# Altium schematic symbol library AM1S.Schlib: 1 symbol
Pins are listed as number, name and electrical type; pins without a type are passive.

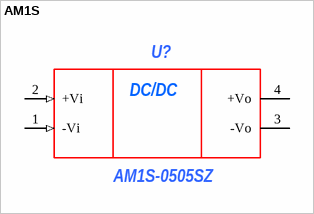
[diagram p0: symbol AM1S]

## AM1S
designator U?, comment AM1S-0505SZ
DC/DC преобразователь Uвх=5В, Uвых=5В 1Вт; ComponentLink1Description: *; ComponentLink1URL: *; ComponentLink2Description: *; ComponentLink2URL: *; ManufacturerPartNumber: AM1S-0505SZ; Power/Voltage: *; Rem: *; TKE: *; Tolerance: *; TU/GOST: *; Value: *; Корпус: *; Примечание: *; Manufacturer: *; Author: *; Type: *
footprint AM1S-0505SZ
pins: 1 -Vi (in), 2 +Vi (in), 3 -Vo (power), 4 +Vo (power)
text: DC/DC